# Altium schematic symbol library 2020-10-24_18-39-10.SchLib: 2 symbols
Pins are listed as number, name and electrical type; pins without a type are passive.

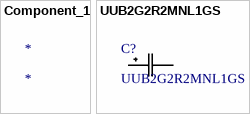
[diagram p0: symbols Component_1 to UUB2G2R2MNL1GS]

## Component_1
designator *

## UUB2G2R2MNL1GS
designator C?
No Description Available; Vendor: Nichicon; Built_By: EMA_Cory; SourceLibrary: Nichicon_2019-09-13; Type: DEV; Manufacturer_Part_Number: UUB2G2R2MNL1GS; Copyright: Copyright (C) 2018 Accelerated Designs. All rights reserved; RefDes: RefDes
footprint CAP_UCD_10X10_NCH
pins: 1, 2